# Altium integrated library TI Power Mgt Charge Pump.IntLib: 5 symbols
Pins are listed as number, name and electrical type; pins without a type are passive.

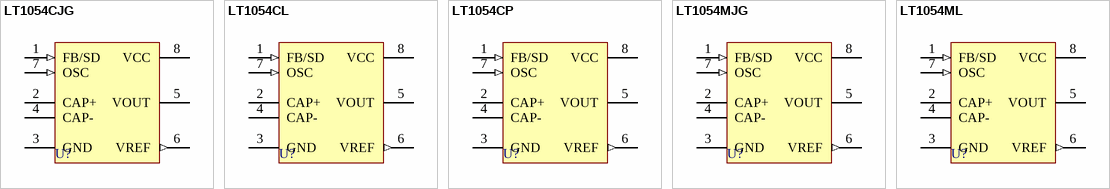
[diagram p0: symbols LT1054CJG to LT1054ML]

## LT1054CJG
designator U?
Switched-Capacitor Voltage Converter with Regulator; Published: 15-Apr-2002; LatestRevisionDate: 06-Jun-2005; LatestRevisionNote: Stylized 3D Model Added.; DatasheetVersion: Jan-1989; PackageVersion: 1986; PackageReference: JG008D; Publisher: Altium Limited; PackageDescription: DIP; 8 Leads; Row Spacing 7.62 mm; Pitch 2.54 mm; ComponentLink1Description: Manufacturer Link; ComponentLink1URL: http://www.ti.com/
footprint JG008D (DIP; 8 Leads; Row Spacing 7.62 mm; Pitch 2.54 mm)
3D model JG008D (DIP; 8 Leads; Row Spacing 7.62 mm; Pitch 2.54 mm)
pins: 1 FB/SD (in), 2 CAP+, 3 GND (power), 4 CAP-, 5 VOUT (oc), 6 VREF (out), 7 OSC (in), 8 VCC (power)

## LT1054CL
designator U?
Switched-Capacitor Voltage Converter with Regulator; Published: 15-Apr-2002; DatasheetVersion: Jan-1989; PackageVersion: 1989; PackageReference: L008; Publisher: Altium Limited; PackageDescription: Can; 8 Leads; Pin Circle Dia. 5.08 mm; Lead Dia. 0.48 mm (max); ComponentLink1Description: Manufacturer Link; ComponentLink1URL: http://www.ti.com/
footprint L008 (Can; 8 Leads; Pin Circle Dia. 5.08 mm; Lead Dia. 0.48 mm (max))
pins: 1 FB/SD (in), 2 CAP+, 3 GND (power), 4 CAP-, 5 VOUT (oc), 6 VREF (out), 7 OSC (in), 8 VCC (power)

## LT1054CP
designator U?
Switched-Capacitor Voltage Converter with Regulator; Published: 15-Apr-2002; LatestRevisionDate: 06-Jun-2005; LatestRevisionNote: Stylized 3D Model Added.; DatasheetVersion: Jan-1989; PackageVersion: Jun-1999; PackageReference: P008; Publisher: Altium Limited; PackageDescription: DIP; 8 Leads; Row Spacing 7.62 mm; Pitch 2.54 mm; Code_JEDEC: MO-001-AN; ComponentLink1Description: Manufacturer Link; ComponentLink1URL: http://www.ti.com/
footprint P008 (DIP; 8 Leads; Row Spacing 7.62 mm; Pitch 2.54 mm)
3D model P008 (DIP; 8 Leads; Row Spacing 7.62 mm; Pitch 2.54 mm)
pins: 1 FB/SD (in), 2 CAP+, 3 GND (power), 4 CAP-, 5 VOUT (oc), 6 VREF (out), 7 OSC (in), 8 VCC (power)

## LT1054MJG
designator U?
Switched-Capacitor Voltage Converter with Regulator; Published: 15-Apr-2002; LatestRevisionDate: 06-Jun-2005; LatestRevisionNote: Stylized 3D Model Added.; DatasheetVersion: Jan-1989; PackageVersion: 1986; PackageReference: JG008D; Publisher: Altium Limited; PackageDescription: DIP; 8 Leads; Row Spacing 7.62 mm; Pitch 2.54 mm; ComponentLink1Description: Manufacturer Link; ComponentLink1URL: http://www.ti.com/
footprint JG008D (DIP; 8 Leads; Row Spacing 7.62 mm; Pitch 2.54 mm)
3D model JG008D (DIP; 8 Leads; Row Spacing 7.62 mm; Pitch 2.54 mm)
pins: 1 FB/SD (in), 2 CAP+, 3 GND (power), 4 CAP-, 5 VOUT (oc), 6 VREF (out), 7 OSC (in), 8 VCC (power)

## LT1054ML
designator U?
Switched-Capacitor Voltage Converter with Regulator; Published: 15-Apr-2002; DatasheetVersion: Jan-1989; PackageVersion: 1989; PackageReference: L008; Publisher: Altium Limited; PackageDescription: Can; 8 Leads; Pin Circle Dia. 5.08 mm; Lead Dia. 0.48 mm (max); ComponentLink1Description: Manufacturer Link; ComponentLink1URL: http://www.ti.com/
footprint L008 (Can; 8 Leads; Pin Circle Dia. 5.08 mm; Lead Dia. 0.48 mm (max))
pins: 1 FB/SD (in), 2 CAP+, 3 GND (power), 4 CAP-, 5 VOUT (oc), 6 VREF (out), 7 OSC (in), 8 VCC (power)